# Altium schematic symbol library APS1604M-3SQR-SN.SchLib: 1 symbol
Pins are listed as number, name and electrical type; pins without a type are passive.

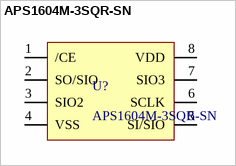
[diagram p0: symbol APS1604M-3SQR-SN]

## APS1604M-3SQR-SN
designator U?
DRAM IoT RAM 16Mb QSPI (x1,x4) SDR 133/84MHz, RBX, 3V, Ind. Temp., SOP8
footprint SOIC127P600X165-8N
pins: 1 /CE, 2 SO/SIO, 3 SIO2, 4 VSS, 5 SI/SIO, 6 SCLK, 7 SIO3, 8 VDD